# Altium schematic symbol library 2300LL102VRC.SchLib: 2 symbols
Pins are listed as number, name and electrical type; pins without a type are passive.

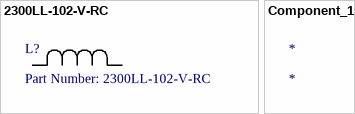
[diagram p0: symbols 2300LL-102-V-RC to Component_1]

## 2300LL-102-V-RC
designator L?, comment Part Number: 2300LL-102-V-RC
No Description Available; Vendor: Bourns Electronics; Built_By: EMA_UL_Team; Type: DEV; Manufacturer_Part_Number: 2300LL-102-V-RC; Copyright: Copyright (C) 2018 Accelerated Designs. All rights reserved; RefDes: RefDes; Value: Value
footprint IND_2300LL-V_52_
pins: 1, 2

## Component_1
designator *